# EAGLE library part HEADER-1X11 (library microbuilder)
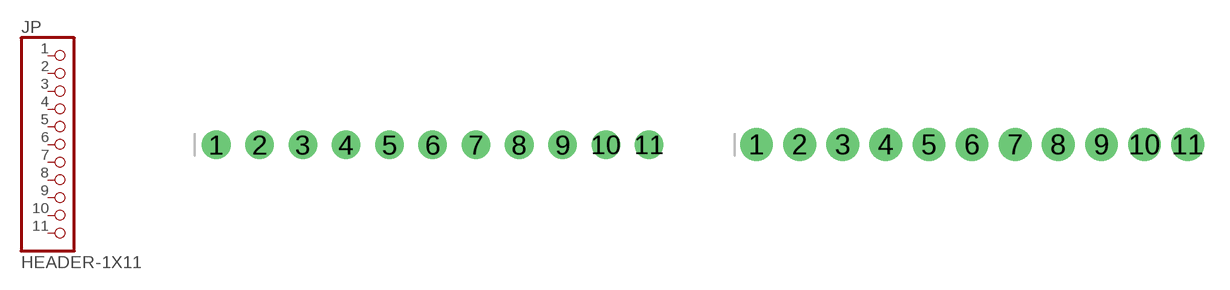
[diagram p43: symbol with the pads of 1X11_ROUND; footprints 1X11_ROUND, 1X11_ROUND_76]

Designator prefix JP

## HEADER-1X11  [1X11_ROUND]
1  1  pas
2  2  pas
3  3  pas
4  4  pas
5  5  pas
6  6  pas
7  7  pas
8  8  pas
9  9  pas
10  10  pas
11  11  pas

## HEADER-1X1176MIL  [1X11_ROUND_76]
Pads as for 1X11_ROUND

## Footprint 1X11_ROUND (pad centres in mm)
drill 1 pad 1.676 round: 1 -12.7,0; 2 -10.16,0; 3 -7.62,0; 4 -5.08,0; 5 -2.54,0; 6 0,0; 7 2.54,0; 8 5.08,0; 9 7.62,0; 10 10.16,0; 11 12.7,0

## Footprint 1X11_ROUND_76 (pad centres in mm)
drill 1 pad 1.93 round: 1 -12.7,0; 2 -10.16,0; 3 -7.62,0; 4 -5.08,0; 5 -2.54,0; 6 0,0; 7 2.54,0; 8 5.08,0; 9 7.62,0; 10 10.16,0; 11 12.7,0